# EAGLE library part DDS-AD9954 (library tidyeagle)
Single Channel 14-Bit 400 MSPS Direct Digital Synthesizer Datasheet: Full <http://www.analog.com/static/imported-files/data_sheets/AD9954.pdf> Farnell: 1581969 <http://uk.farnell.com/analog-devices/ad9954ysvz/ic-dds-400msps-smd-9954-tqfp48/dp/1581969> Application Notes: DVDD and AVDD is 1.8v. DVDD-IO is 3.3v for IO cells only. IOUT/!IOUT! is biased to AVDD not AGND.
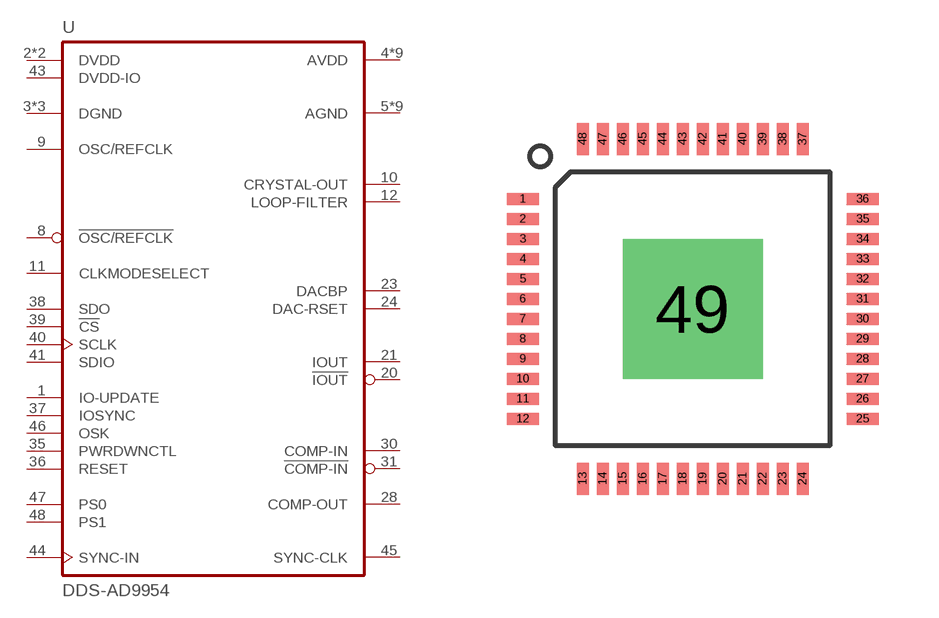
[diagram p34: symbol with the pads of TQ48-EP; footprint TQ48-EP]

Designator prefix U

## DDS-AD9954-TQFP48-EP  [TQ48-EP]
1  IO-UPDATE  in
2  DVDD  pwr
3  DGND  pwr
4  AVDD  pwr
5  AGND  pwr
6  AVDD  pwr
7  AGND  pwr
8  !OSC/REFCLK!  in
9  OSC/REFCLK  in
10  CRYSTAL-OUT  out
11  CLKMODESELECT  in
12  LOOP-FILTER  in
13  AVDD  pwr
14  AGND  pwr
15  AGND  pwr
16  AVDD  pwr
17  AGND  pwr
18  AVDD  pwr
19  AVDD  pwr
20  !IOUT!  out
21  IOUT  out
22  AGND  pwr
23  DACBP
24  DAC-RSET
25  AVDD  pwr
26  AGND  pwr
27  AVDD  pwr
28  COMP-OUT  out
29  AVDD  pwr
30  COMP-IN  in
31  !COMP-IN!  in
32  AGND  pwr
33  DGND  pwr
34  DVDD  pwr
35  PWRDWNCTL  in
36  RESET  in
37  IOSYNC  in
38  SDO  out
39  !CS!  in
40  SCLK  in
41  SDIO
42  DGND  pwr
43  DVDD-IO  pwr
44  SYNC-IN  in
45  SYNC-CLK  out
46  OSK  in
47  PS0  in
48  PS1  in
49  AGND  pwr

## Footprint TQ48-EP (pad centres in mm)
Not tested.
smd 0.8 x 0.3: 1 -4.25,2.75; 2 -4.25,2.25; 3 -4.25,1.75; 4 -4.25,1.25; 5 -4.25,0.75; 6 -4.25,0.25; 7 -4.25,-0.25; 8 -4.25,-0.75; 9 -4.25,-1.25; 10 -4.25,-1.75; 11 -4.25,-2.25; 12 -4.25,-2.75; 25 4.25,-2.75; 26 4.25,-2.25; 27 4.25,-1.75; 28 4.25,-1.25; 29 4.25,-0.75; 30 4.25,-0.25; 31 4.25,0.25; 32 4.25,0.75; 33 4.25,1.25; 34 4.25,1.75; 35 4.25,2.25; 36 4.25,2.75
smd 0.3 x 0.8: 13 -2.75,-4.25; 14 -2.25,-4.25; 15 -1.75,-4.25; 16 -1.25,-4.25; 17 -0.75,-4.25; 18 -0.25,-4.25; 19 0.25,-4.25; 20 0.75,-4.25; 21 1.25,-4.25; 22 1.75,-4.25; 23 2.25,-4.25; 24 2.75,-4.25; 37 2.75,4.25; 38 2.25,4.25; 39 1.75,4.25; 40 1.25,4.25; 41 0.75,4.25; 42 0.25,4.25; 43 -0.25,4.25; 44 -0.75,4.25; 45 -1.25,4.25; 46 -1.75,4.25; 47 -2.25,4.25; 48 -2.75,4.25
drill 1.4 pad 3.5 square: 49 0,0